# EAGLE library part JST-XH-14 (library con-JST-XH)
JST-XH 4-way vertical TH
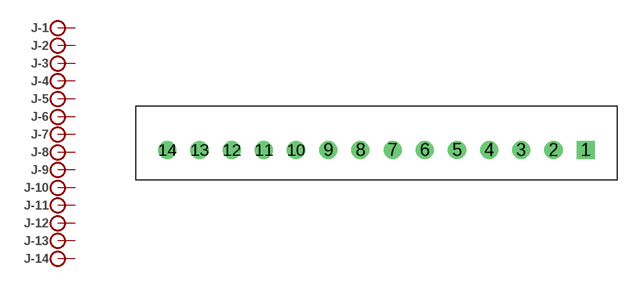
[diagram p6: symbol with the pads of B14B-XH-A; footprint B14B-XH-A]

Designator prefix J; gates -1=PIN -2=PIN -3=PIN -4=PIN -5=PIN -6=PIN -7=PIN -8=PIN -9=PIN -10=PIN -11=PIN -12=PIN -13=PIN -14=PIN

## JST-XH-14 (MF: JST; MPN: B14B-XH-A)  [B14B-XH-A]
1  -1:P
2  -2:P
3  -3:P
4  -4:P
5  -5:P
6  -6:P
7  -7:P
8  -8:P
9  -9:P
10  -10:P
11  -11:P
12  -12:P
13  -13:P
14  -14:P

## Footprint B14B-XH-A (pad centres in mm)
JST-XH (2.5mm) 14-pin through-hole vertical Wire-Board Connector
drill 0.9 square: 1 16.25,0
drill 0.9: 2 13.75,0; 3 11.25,0; 4 8.75,0; 5 6.25,0; 6 3.75,0; 7 1.25,0; 8 -1.25,0; 9 -3.75,0; 10 -6.25,0; 11 -8.75,0; 12 -11.25,0; 13 -13.75,0; 14 -16.25,0